# Altium integrated library Regulator.IntLib: 30 symbols
Pins are listed as number, name and electrical type; pins without a type are passive.

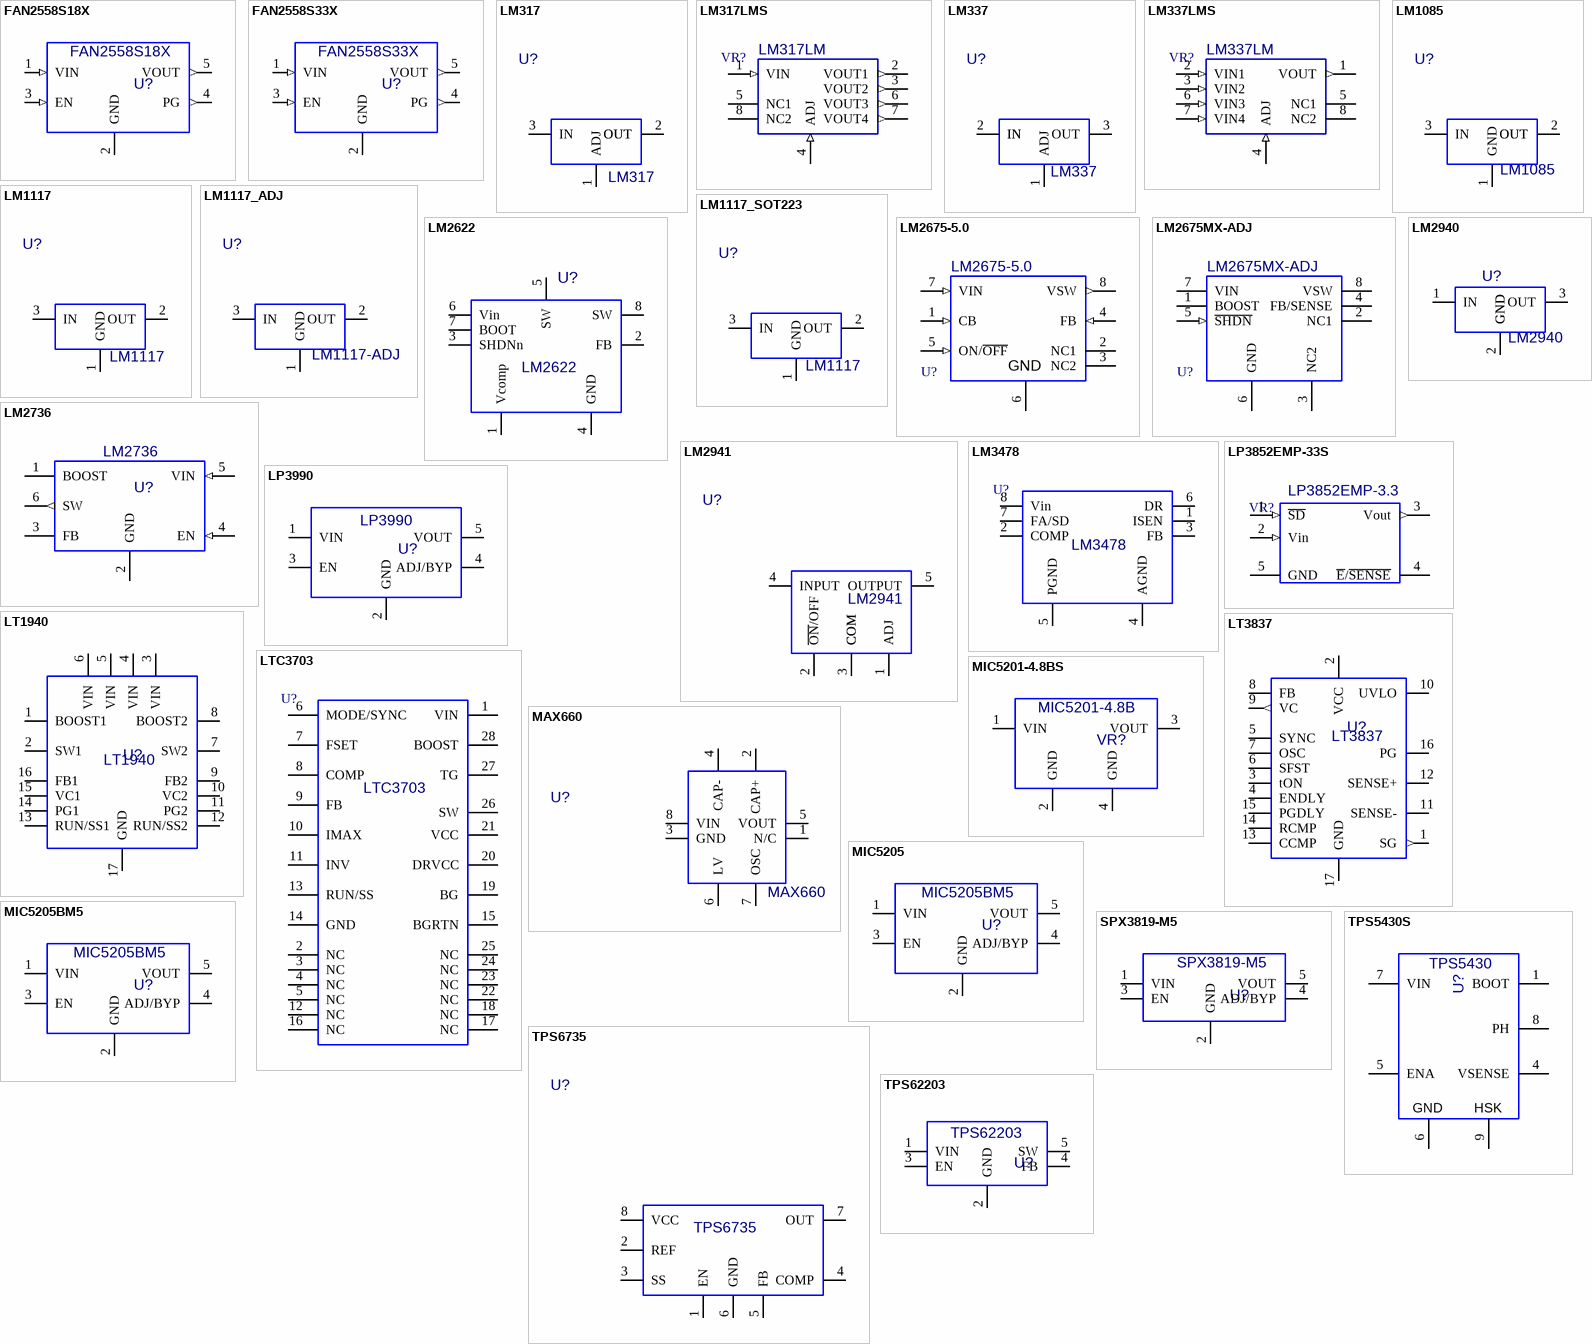
[diagram p0: symbols FAN2558S18X to TPS62203]

## FAN2558S18X
designator U?, comment value FAN2558S18X  (hidden comment: AWT25-000223)
Regulator, FAN2558S18X 1.8V CMOS LDO; ECAD_Revision: 1; Librarian: UK; PartNumber: AWT25-000223; Item: *
footprint SOT23-5
pins: 1 VIN (in), 2 GND, 3 EN (in), 4 PG (out), 5 VOUT (out)

## FAN2558S33X
designator U?, comment value FAN2558S33X  (hidden comment: AWT25-000225)
Regulator, FAN2558S33X 3.3V CMOS LDO; ECAD_Revision: 1; Librarian: UK; PartNumber: AWT25-000225; Item: *
footprint SOT23-5
pins: 1 VIN (in), 2 GND, 3 EN (in), 4 PG (out), 5 VOUT (out)

## LM317
designator U?, comment value LM317  (hidden comment: 60187-0025)
Regulator, LM317; ECAD_Revision: 1; Librarian: US; PartNumber: 60187-0025; HelpURL: K:\ACCELEDA\PDF Spec Files\Regulators\LM117.PDF; Item: *
footprint TO-263
pins: 1 ADJ, 2 OUT, 3 IN, 4 OUT

## LM317LMS
designator VR?, comment value LM317LM  (hidden comment: IXA/LM317LM)
Regulator, LM317LM; ECAD_Revision: 2; Librarian: UK; PartNumber: IXA/LM317LM; HelpURL: *; Item: *; Tolerance: *
footprint SOIC8
pins: 1 VIN (in), 2 VOUT1 (out), 3 VOUT2 (out), 4 ADJ (in), 5 NC1, 6 VOUT3 (out), 7 VOUT4 (out), 8 NC2

## LM337
designator U?, comment value LM337  (hidden comment: AWT25-500162)
Regulator, LM337; ECAD_Revision: 2; Librarian: US; PartNumber: AWT25-500162; HelpURL: K:\ACCELEDA\PDF Spec Files\Regulators\LM337.PDF; Item: *
footprint SOT-223
pins: 1 ADJ, 2 IN, 3 OUT, 4 IN

## LM337LMS
designator VR?, comment value LM337LM  (hidden comment: IXA/LM337LM)
Regulator, LM337LM; ECAD_Revision: 2; Librarian: UK; PartNumber: IXA/LM337LM; HelpURL: *; Item: *; Tolerance: *
footprint SOIC8
pins: 1 VOUT (out), 2 VIN1 (in), 3 VIN2 (in), 4 ADJ (in), 5 NC1, 6 VIN3 (in), 7 VIN4 (in), 8 NC2

## LM1085
designator U?, comment value LM1085  (hidden comment: 60187-0075)
Regulator, LM1085; ECAD_Revision: 1; Librarian: US; PartNumber: 60187-0075; HelpURL: K:\ACCELEDA\PDF Spec Files\Regulators\LM1085.PDF; ComponentLink1URL: K:\ACCELEDA\PDF Spec Files\Regulators\1083FFC.PDF; Item: *
footprint TO-263
pins: 1 GND, 2 OUT, 3 IN, 4 OUT

## LM1117
designator U?, comment value LM1117  (hidden comment: '''')
Regulator, LM1117; ECAD_Revision: 1; Librarian: UK; PartNumber: ''''; Item: *
footprint SOT-223
pins: 1 GND, 2 OUT, 3 IN

## LM1117_ADJ
designator U?, comment value LM1117-ADJ  (hidden comment: 27479-0237)
Regulator, LM1117; ECAD_Revision: 1; Librarian: US; PartNumber: 27479-0237; HelpURL: K:\ACCELEDA\PDF Spec Files\Regulators\LM1117.PDF; ComponentLink1URL: K:\ACCELEDA\PDF Spec Files\Regulators\RC1117.PDF; Item: *
footprint TO-252
pins: 1 GND, 2 OUT, 3 IN

## LM1117_SOT223
designator U?, comment value LM1117  (hidden comment: AWT25-500161)
Regulator, LM1117; ECAD_Revision: 2; Librarian: US; PartNumber: AWT25-500161; HelpURL: K:\ACCELEDA\PDF Spec Files\Regulators\LM1117.PDF; ComponentLink1URL: K:\ACCELEDA\PDF Spec Files\Regulators\RC1117.PDF; Item: *
footprint SOT-223
pins: 1 GND, 2 OUT, 3 IN

## LM2622
designator U?, comment value LM2622  (hidden comment: TMP_US_LM2622)
Regulator, LM2622; ECAD_Revision: 1; Librarian: US; PartNumber: TMP_US_LM2622; HelpURL: K:\ACCELEDA\PDF Spec Files\Regulators\LM2622.pdf; Item: *
footprint MSOP8
pins: 1 Vcomp, 2 FB, 3 SHDNn, 4 GND, 5 SW, 6 Vin, 7 BOOT, 8 SW

## LM2675-5.0
designator U?, comment value LM2675-5.0  (hidden comment: IXA/LM2675-50)
IC, LM2675-5.0; ECAD_Revision: 1; Librarian: UK; Power Rating: *; PartNumber: IXA/LM2675-50; Item: *; HelpURL: *; Tolerance: *
footprint SOIC8
pins: 1 CB (in), 2 NC1, 3 NC2, 4 FB (in), 5 ON/~{OFF} (in), 6 GND, 7 VIN (in), 8 VSW (out)

## LM2675MX-ADJ
designator U?, comment value LM2675MX-ADJ  (hidden comment: IXA/LM2675-ADJ)
IC, LM2675MX-ADJ; ECAD_Revision: 1; Librarian: UK; Power Rating: *; PartNumber: IXA/LM2675-ADJ; Item: *; HelpURL: *; Tolerance: *
footprint SOIC8
pins: 1 BOOST, 2 NC1, 3 NC2, 4 FB/SENSE, 5 ~{SHDN} (in), 6 GND (power), 7 VIN (power), 8 VSW

## LM2736
designator U?, comment value LM2736  (hidden comment: TMP_US_LM2736)
Regulator, LM2736; ECAD_Revision: 1; Librarian: US; PartNumber: TMP_US_LM2736; HelpURL: K:\ACCELEDA\PDF Spec Files\Regulators\LM2736.PDF; Item: *
footprint SOT23L
pins: 1 BOOST, 2 GND, 3 FB, 4 EN (in), 5 VIN (in), 6 SW (out)

## LM2940
designator U?, comment value LM2940  (hidden comment: 60187-0082)
Regulator, LM2940; ECAD_Revision: 1; Librarian: US; PartNumber: 60187-0082; HelpURL: K:\ACCELEDA\PDF Spec Files\Regulators\lm2940.pdf; Item: *
footprint SOT-223
pins: 1 IN, 2 GND, 3 OUT, 4 GND

## LM2941
designator U?, comment value LM2941  (hidden comment: 60187-0017)
Regulator, LM2941; ECAD_Revision: 1; Librarian: US; PartNumber: 60187-0017; HelpURL: K:\ACCELEDA\PDF Spec Files\Regulators\lm2941.pdf; Item: *
footprint T0-2635L
pins: 1 ADJ, 2 ~{ON}/OFF, 3 COM, 4 INPUT, 5 OUTPUT, 6 COM

## LM3478
designator U?, comment value LM3478  (hidden comment: AWT25-500084)
Regulator, LM3478; ECAD_Revision: 2; Librarian: US; HelpURL: K:\ACCELEDA\PDF Spec Files\Regulators\LM3478.PDF; PartNumber: AWT25-500084
footprint MSOP8
pins: 1 ISEN, 2 COMP, 3 FB, 4 AGND, 5 PGND, 6 DR, 7 FA/SD, 8 Vin

## LP3852EMP-33S
designator VR?, comment value LP3852EMP-3.3  (hidden comment: AWT25-000150)
Regulator, LP3852EMP-33; ECAD_Revision: 2; Librarian: UK; PartNumber: AWT25-000150; Item: *; HelpURL: *; Tolerance: *
footprint SOT-223-5
pins: 1 ~{SD} (in), 2 Vin (in), 3 Vout (out), 4 ~{E}/~{SENSE}, 5 GND (power)

## LP3990
designator U?, comment value LP3990  (hidden comment: 60187-0058)
Regulator, LP3990; ECAD_Revision: 1; Librarian: US; PartNumber: 60187-0058; HelpURL: K:\ACCELEDA\PDF Spec Files\Regulators\LP3990.PDF; Item: *
footprint SOT23-5
pins: 1 VIN, 2 GND, 3 EN, 4 ADJ/BYP, 5 VOUT

## LT1940
designator U?, comment value LT1940  (hidden comment: 60187-6667)
Regulator, LT1940; ECAD_Revision: 1; Librarian: US; PartNumber: 60187-6667; HelpURL: K:\ACCELEDA\PDF Spec Files\Regulators\LT1940.pdf; Item: *
footprint TSSOP17
pins: 1 BOOST1, 2 SW1, 3 VIN, 4 VIN, 5 VIN, 6 VIN, 7 SW2, 8 BOOST2, 9 FB2, 10 VC2, 11 PG2, 12 RUN/SS2, 13 RUN/SS1, 14 PG1, 15 VC1, 16 FB1, 17 GND

## LT3837
designator U?, comment value LT3837  (hidden comment: AWT25-500030)
Regulator, LT3837; ECAD_Revision: 2; Librarian: US; PartNumber: AWT25-500030; HelpURL: K:\ACCELEDA\PDF Spec Files\Regulators\LT3837.pdf; Item: *
footprint TSSOP17
pins: 1 SG (out), 2 VCC (power), 3 tON, 4 ENDLY, 5 SYNC, 6 SFST, 7 OSC, 8 FB, 9 VC (out), 10 UVLO, 11 SENSE-, 12 SENSE+, 13 CCMP, 14 RCMP, 15 PGDLY, 16 PG, 17 GND

## LTC3703
designator U?, comment value LTC3703  (hidden comment: AWT25-500119)
Regulator, LTC3703; ECAD_Revision: 1; Librarian: US; HelpURL: K:\ACCELEDA\PDF Spec Files\Regulators\LTC3703.pdf; PartNumber: AWT25-500119
footprint SSOP28 (.65mm pitch)
pins: 1 VIN (power), 2 NC, 3 NC, 4 NC, 5 NC, 6 MODE/SYNC, 7 FSET, 8 COMP, 9 FB, 10 IMAX, 11 INV, 12 NC, 13 RUN/SS, 14 GND (power), 15 BGRTN, 16 NC, 17 NC, 18 NC, 19 BG, 20 DRVCC, 21 VCC (power), 22 NC, 23 NC, 24 NC, 25 NC, 26 SW, 27 TG, 28 BOOST

## MAX660
designator U?, comment value MAX660  (hidden comment: 60187-0066)
Regulator, MAX660; ECAD_Revision: 1; Librarian: US; PartNumber: 60187-0066; HelpURL: K:\ACCELEDA\PDF Spec Files\Regulators\max660.pdf; Item: *
footprint SOIC8
pins: 1 N/C, 2 CAP+, 3 GND, 4 CAP-, 5 VOUT, 6 LV, 7 OSC, 8 VIN

## MIC5201-4.8BS
designator VR?, comment value MIC5201-4.8B  (hidden comment: IXA/MIC5201-4V8)
Regulator, MIC5201-4.8BS; ECAD_Revision: 2; Librarian: UK; PartNumber: IXA/MIC5201-4V8; Item: *
footprint SOT-223
pins: 1 VIN, 2 GND, 3 VOUT, 4 GND "TAB"

## MIC5205
designator U?, comment value MIC5205BM5  (hidden comment: 60178-0033)
Regulator, MIC5205; ECAD_Revision: 1; Librarian: US; PartNumber: 60178-0033; HelpURL: K:\ACCELEDA\PDF Spec Files\Regulators\mic5205.PDF; Item: *
footprint SOT23-5
pins: 1 VIN, 2 GND, 3 EN, 4 ADJ/BYP, 5 VOUT

## MIC5205BM5
designator U?, comment value MIC5205BM5  (hidden comment: IXA/MIC5205BM5)
Regulator, MIC5205BM5; ECAD_Revision: 1; Librarian: UK; PartNumber: IXA/MIC5205BM5; Item: *
footprint SOT23-5
pins: 1 VIN, 2 GND, 3 EN, 4 ADJ/BYP, 5 VOUT

## SPX3819-M5
designator U?, comment value SPX3819-M5  (hidden comment: 60178-0041)
Regulator, SPX3819-M5; ECAD_Revision: 1; Librarian: US; PartNumber: 60178-0041; HelpURL: K:\ACCELEDA\PDF Spec Files\Regulators\SPX3819.PDF; Item: *
footprint SOT23-5
pins: 1 VIN, 2 GND, 3 EN, 4 ADJ/BYP, 5 VOUT

## TPS5430S
designator U?, comment value TPS5430  (hidden comment: AWT25-000140)
Regulator, TPS5430, 3A Step Down Converter; ECAD_Revision: 1; Librarian: UK; PartNumber: AWT25-000140; Item: *; HelpURL: *
footprint SOIC8_PP (Texas, 8 pin, 1.27mm pitch, DDA style, Rev.1)
pins: 1 BOOT "Switch output", 4 VSENSE "Switch output", 5 ENA "Input voltage", 6 GND (power) "Ground", 7 VIN "Input voltage", 8 PH "Switch output", 9 HSK "Heatsink"

## TPS6735
designator U?, comment value TPS6735  (hidden comment: AWT25-500163)
Regulator, TPS6735; ECAD_Revision: 2; Librarian: US; PartNumber: AWT25-500163; HelpURL: K:\ACCELEDA\PDF Spec Files\Regulators\tps6735.pdf; Item: *
footprint SOIC8
pins: 1 EN, 2 REF, 3 SS, 4 COMP, 5 FB, 6 GND, 7 OUT, 8 VCC

## TPS62203
designator U?, comment value TPS62203  (hidden comment: AWT25-500101)
Regulator, TPS62203 3.3V; ECAD_Revision: 2; Librarian: US; PartNumber: AWT25-500101; HelpURL: K:\ACCELEDA\PDF Spec Files\Regulators\TPS62203.PDF; Item: *
footprint SOT23-5
pins: 1 VIN, 2 GND, 3 EN, 4 FB, 5 SW